# EAGLE library part MAX2606 (library MAX2606)
MAX2606 RF transmitter in SOT 23-6 package
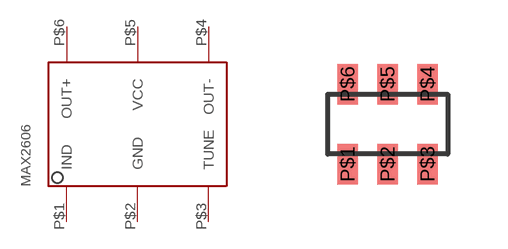
[diagram p0: symbol with the pads of MAX2606; footprint MAX2606]

Designator prefix -

## MAX2606  [MAX2606]
P$1  IND
P$2  GND
P$3  TUNE
P$4  OUT-
P$5  VCC
P$6  OUT+

## Footprint MAX2606 (pad centres in mm)
smd 0.508 x 1.016: P$1 -1,-1; P$2 0,-1; P$3 1,-1; P$4 1,1; P$5 0,1; P$6 -1,1